# Altium footprint library WE-LAN 10G.PcbLib: 14 footprints
Each footprint in its own frame and in the unit in brackets; x right, y up, seen from the top. Pads: shape width x height; smd on the part's side, far side on the other; paste and mask are expansions set on the pad; w line width, h text height; cw(c..) or ccw(c..) is an arc to the next point about the centre after c.
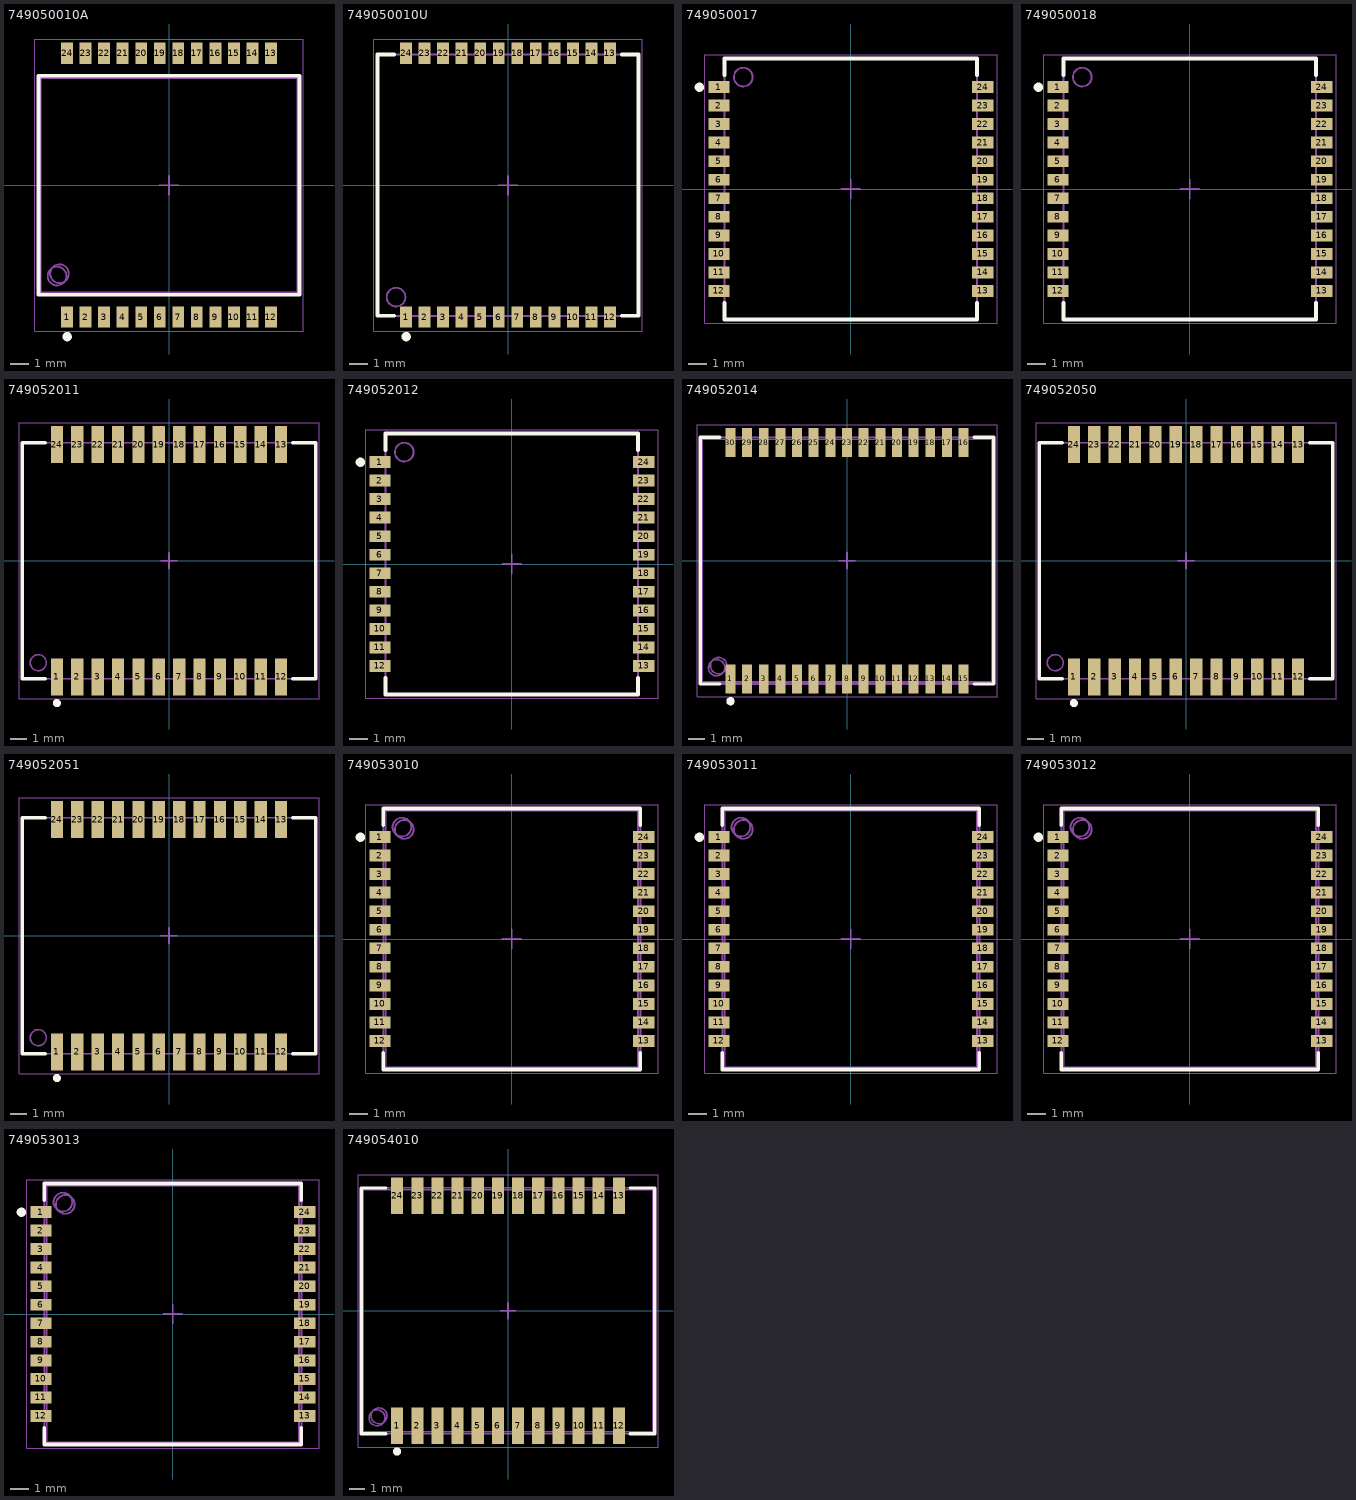
[diagram p0: the footprints below, top view; thin cyan lines are the x and y axes]

## 749050010A [mm] "LAN-Transformer 10G, body 13.97x13.97mm, 24-leads"
height 6.6
pads (24):
  rect 0.64x1.14 smd: 1(-5.445,-7.05) 2(-4.455,-7.05) 3(-3.465,-7.05) 4(-2.475,-7.05) 5(-1.485,-7.05) 6(-0.495,-7.05) 7(0.495,-7.05) 8(1.485,-7.05) 9(2.475,-7.05) 10(3.465,-7.05) 11(4.455,-7.05) 12(5.445,-7.05) 13(5.445,7.05) 14(4.455,7.05) 15(3.465,7.05) 16(2.475,7.05) 17(1.485,7.05) 18(0.495,7.05) 19(-0.495,7.05) 20(-1.485,7.05) 21(-2.475,7.05) 22(-3.465,7.05) 23(-4.455,7.05) 24(-5.445,7.05)
Top Overlay:
  circle w0.25: c-5.445,-8.1 r0.125
  lines w0.2: -6.985,-5.86 6.985,-5.86 6.985,5.86 -6.985,5.86 -6.985,-5.86
Top Assembly:
  circle w0.1: c-5.985,-4.86 r0.5
  lines w0.1: -6.985,-5.86 -6.985,5.86 6.985,5.86 6.985,-5.86 -6.985,-5.86
Top Designator:
  text ".Designator" at -3.647,-0.357 h1
Top 3D Body:
  circle w0.1: c-5.86,-4.735 r0.5
  lines w0.1: -6.86,-5.735 6.86,-5.735 6.86,5.735 -6.86,5.735 -6.86,-5.735
Top Courtyard:
  lines w0.05: -7.185,-7.82 7.185,-7.82 7.185,7.82 -7.185,7.82 -7.185,-7.82
Top Component Center:
  lines w0.1: -0.5,0 0.5,0 ; 0,-0.5 0,0.5
3D body "749050010A.stp": height 6.15, standoff 0, extent -6.985,-7.43 6.985,7.43

## 749050010U [mm] "LAN-Transformer 10G, body 13.97x13.97mm, 24-leads"
height 6.6
pads (24):
  rect 0.64x1.14 smd: 1(-5.445,-7.05) 2(-4.455,-7.05) 3(-3.465,-7.05) 4(-2.475,-7.05) 5(-1.485,-7.05) 6(-0.495,-7.05) 7(0.495,-7.05) 8(1.485,-7.05) 9(2.475,-7.05) 10(3.465,-7.05) 11(4.455,-7.05) 12(5.445,-7.05) 13(5.445,7.05) 14(4.455,7.05) 15(3.465,7.05) 16(2.475,7.05) 17(1.485,7.05) 18(0.495,7.05) 19(-0.495,7.05) 20(-1.485,7.05) 21(-2.475,7.05) 22(-3.465,7.05) 23(-4.455,7.05) 24(-5.445,7.05)
Top Overlay:
  circle w0.25: c-5.445,-8.1 r0.125
  lines w0.2: -6.1,-6.985 -6.985,-6.985 -6.985,6.985 -6.1,6.985 ; 6.1,-6.985 6.985,-6.985 6.985,6.985 6.1,6.985
Top Assembly:
  circle w0.1: c-5.985,-5.985 r0.5
  lines w0.1: -6.985,-6.985 -6.985,6.985 6.985,6.985 6.985,-6.985 -6.985,-6.985
Top Designator:
  text ".Designator" at -3.647,-0.357 h1
Top 3D Body:
  circle w0.1: c-5.985,-5.985 r0.5
  lines w0.1: -6.985,-6.985 -6.985,6.985 6.985,6.985 6.985,-6.985 -6.985,-6.985
Top Courtyard:
  lines w0.05: -7.185,-7.82 7.185,-7.82 7.185,7.82 -7.185,7.82 -7.185,-7.82
Top Component Center:
  lines w0.1: -0.5,0 0.5,0 ; 0,-0.5 0,0.5
3D body "Download_STP_749050010U_rev1.stp": height 6.6, standoff 0, extent -6.985,-7.41 6.985,7.41

## 749050017 [mm] "LAN-Transformer 10G, body 13.5x13.72mm, 24-leads"
height 6.6
pads (24):
  rect 1.14x0.64 smd: 1(-7.05,5.445) 2(-7.05,4.455) 3(-7.05,3.465) 4(-7.05,2.475) 5(-7.05,1.485) 6(-7.05,0.495) 7(-7.05,-0.495) 8(-7.05,-1.485) 9(-7.05,-2.475) 10(-7.05,-3.465) 11(-7.05,-4.455) 12(-7.05,-5.445) 13(7.05,-5.445) 14(7.05,-4.455) 15(7.05,-3.465) 16(7.05,-2.475) 17(7.05,-1.485) 18(7.05,-0.495) 19(7.05,0.495) 20(7.05,1.485) 21(7.05,2.475) 22(7.05,3.465) 23(7.05,4.455) 24(7.05,5.445)
Top Overlay:
  circle w0.25: c-8.1,5.445 r0.125
  lines w0.2: -6.75,-6.1 -6.75,-6.985 6.75,-6.985 6.75,-6.1 ; -6.75,6.1 -6.75,6.985 6.75,6.985 6.75,6.1
Top Assembly:
  circle w0.1: c-5.75,5.985 r0.5
  lines w0.1: -6.75,-6.985 6.75,-6.985 6.75,6.985 -6.75,6.985 -6.75,-6.985
Top Designator:
  text ".Designator" at -3.647,-0.357 h1
Top 3D Body:
  circle w0.1: c-5.75,5.985 r0.5
  lines w0.1: -6.75,-6.985 6.75,-6.985 6.75,6.985 -6.75,6.985 -6.75,-6.985
Top Courtyard:
  lines w0.05: -7.82,-7.185 7.82,-7.185 7.82,7.185 -7.82,7.185 -7.82,-7.185
Top Component Center:
  lines w0.1: -0.5,0 0.5,0 ; 0,-0.5 0,0.5
3D body "749050017.stp": height 6.6, standoff 0, extent -7.605,-6.985 7.505,6.985

## 749050018 [mm] "LAN-Transformer 10G, body 13.5x13.72mm, 24-leads"
height 6.6
pads (24):
  rect 1.14x0.64 smd: 1(-7.05,5.445) 2(-7.05,4.455) 3(-7.05,3.465) 4(-7.05,2.475) 5(-7.05,1.485) 6(-7.05,0.495) 7(-7.05,-0.495) 8(-7.05,-1.485) 9(-7.05,-2.475) 10(-7.05,-3.465) 11(-7.05,-4.455) 12(-7.05,-5.445) 13(7.05,-5.445) 14(7.05,-4.455) 15(7.05,-3.465) 16(7.05,-2.475) 17(7.05,-1.485) 18(7.05,-0.495) 19(7.05,0.495) 20(7.05,1.485) 21(7.05,2.475) 22(7.05,3.465) 23(7.05,4.455) 24(7.05,5.445)
Top Overlay:
  circle w0.25: c-8.1,5.445 r0.125
  lines w0.2: -6.75,-6.1 -6.75,-6.985 6.75,-6.985 6.75,-6.1 ; -6.75,6.1 -6.75,6.985 6.75,6.985 6.75,6.1
Top Assembly:
  circle w0.1: c-5.75,5.985 r0.5
  lines w0.1: -6.75,-6.985 -6.75,6.985 6.75,6.985 6.75,-6.985 -6.75,-6.985
Top Designator:
  text ".Designator" at -3.647,-0.357 h1
Top 3D Body:
  circle w0.1: c-5.75,5.985 r0.5
  lines w0.1: -6.75,-6.985 -6.75,6.985 6.75,6.985 6.75,-6.985 -6.75,-6.985
Top Courtyard:
  lines w0.05: -7.82,-7.185 -7.82,7.185 7.82,7.185 7.82,-7.185 -7.82,-7.185
Top Component Center:
  lines w0.1: -0.5,0 0.5,0 ; 0,-0.5 0,0.5
3D body "749050018.stp": height 6.6, standoff 0, extent -7.605,-6.985 7.505,6.985

## 749052011 [mm] "LAN-Transformer 10G, body 18.04x14.45mm, 24-leads"
height 7.45
pads (24):
  rect 0.76x2.29 smd: 1(-6.985,-7.24) 2(-5.715,-7.24) 3(-4.445,-7.24) 4(-3.175,-7.24) 5(-1.905,-7.24) 6(-0.635,-7.24) 7(0.635,-7.24) 8(1.905,-7.24) 9(3.175,-7.24) 10(4.445,-7.24) 11(5.715,-7.24) 12(6.985,-7.24) 13(6.985,7.24) 14(5.715,7.24) 15(4.445,7.24) 16(3.175,7.24) 17(1.905,7.24) 18(0.635,7.24) 19(-0.635,7.24) 20(-1.905,7.24) 21(-3.175,7.24) 22(-4.445,7.24) 23(-5.715,7.24) 24(-6.985,7.24)
Top Overlay:
  circle w0.25: c-6.985,-8.865 r0.125
  lines w0.2: -7.7,-7.35 -9.145,-7.35 -9.145,7.35 -7.7,7.35 ; 7.7,-7.35 9.145,-7.35 9.145,7.35 7.7,7.35
Top Assembly:
  circle w0.1: c-8.145,-6.35 r0.5
  lines w0.1: -9.145,-7.35 9.145,-7.35 9.145,7.35 -9.145,7.35 -9.145,-7.35
Top Designator:
  text ".Designator" at -3.647,-0.357 h1
Top 3D Body:
  circle w0.1: c-8.145,-6.35 r0.5
  lines w0.1: -9.145,-7.35 9.145,-7.35 9.145,7.35 -9.145,7.35 -9.145,-7.35
Top Courtyard:
  lines w0.05: -9.345,-8.585 -9.345,8.585 9.345,8.585 9.345,-8.585 -9.345,-8.585
Top Component Center:
  lines w0.1: -0.5,0 0.5,0 ; 0,-0.5 0,0.5
3D body "749052011.stp": height 7.2, standoff 0, extent -9.145,-8 9.145,8

## 749052012 [mm] "LAN-Transformer 10G, body 13.5x13.72mm, 24-leads"
height 6.6
pads (24):
  rect 1.14x0.64 smd: 1(-7.05,5.445) 2(-7.05,4.455) 3(-7.05,3.465) 4(-7.05,2.475) 5(-7.05,1.485) 6(-7.05,0.495) 7(-7.05,-0.495) 8(-7.05,-1.485) 9(-7.05,-2.475) 10(-7.05,-3.465) 11(-7.05,-4.455) 12(-7.05,-5.445) 13(7.05,-5.445) 14(7.05,-4.455) 15(7.05,-3.465) 16(7.05,-2.475) 17(7.05,-1.485) 18(7.05,-0.495) 19(7.05,0.495) 20(7.05,1.485) 21(7.05,2.475) 22(7.05,3.465) 23(7.05,4.455) 24(7.05,5.445)
Top Overlay:
  circle w0.25: c-8.1,5.445 r0.125
  lines w0.2: -6.75,-6.1 -6.75,-6.985 6.75,-6.985 6.75,-6.1 ; -6.75,6.1 -6.75,6.985 6.75,6.985 6.75,6.1
Top Assembly:
  circle w0.1: c-5.75,5.985 r0.5
  lines w0.1: -6.75,-6.985 -6.75,6.985 6.75,6.985 6.75,-6.985 -6.75,-6.985
Top Designator:
  text ".Designator" at -3.647,-0.357 h1
Top 3D Body:
  circle w0.1: c-5.75,5.985 r0.5
  lines w0.1: -6.75,-6.985 -6.75,6.985 6.75,6.985 6.75,-6.985 -6.75,-6.985
Top Courtyard:
  lines w0.05: -7.82,-7.185 7.82,-7.185 7.82,7.185 -7.82,7.185 -7.82,-7.185
Top Component Center:
  lines w0.1: -0.5,0 0.5,0 ; 0,-0.5 0,0.5
3D body "749052012.stp": height 6.6, standoff 0, extent -7.555,-6.985 7.555,6.985

## 749052014 [mm] "LAN-Transformer 10G, body 17.73x14.86mm, 30-leads"
height 7.49
pads (30):
  rect 0.61x1.78 smd: 1(-7.14,-7.24) 2(-6.12,-7.24) 3(-5.1,-7.24) 4(-4.08,-7.24) 5(-3.06,-7.24) 6(-2.04,-7.24) 7(-1.02,-7.24) 8(0,-7.24) 9(1.02,-7.24) 10(2.04,-7.24) 11(3.06,-7.24) 12(4.08,-7.24) 13(5.1,-7.24) 14(6.12,-7.24) 15(7.14,-7.24) 16(7.14,7.24) 17(6.12,7.24) 18(5.1,7.24) 19(4.08,7.24) 20(3.06,7.24) 21(2.04,7.24) 22(1.02,7.24) 23(0,7.24) 24(-1.02,7.24) 25(-2.04,7.24) 26(-3.06,7.24) 27(-4.08,7.24) 28(-5.1,7.24) 29(-6.12,7.24) 30(-7.14,7.24)
Top Overlay:
  circle w0.25: c-7.14,-8.61 r0.125
  lines w0.2: -7.8,-7.555 -8.99,-7.555 -8.99,7.555 -7.8,7.555 ; 7.8,-7.555 8.99,-7.555 8.99,7.555 7.8,7.555
Top Assembly:
  circle w0.1: c-7.99,-6.555 r0.5
  lines w0.1: -8.99,-7.555 -8.99,7.555 8.99,7.555 8.99,-7.555 -8.99,-7.555
Top Designator:
  text ".Designator" at -3.647,-0.357 h1
Top 3D Body:
  circle w0.1: c-7.865,-6.43 r0.5
  lines w0.1: -8.865,-7.43 -8.865,7.43 8.865,7.43 8.865,-7.43 -8.865,-7.43
Top Courtyard:
  lines w0.05: -9.19,-8.33 9.19,-8.33 9.19,8.33 -9.19,8.33 -9.19,-8.33
Top Component Center:
  lines w0.1: -0.5,0 0.5,0 ; 0,-0.5 0,0.5
3D body "749052014.stp": height 7.25, standoff 0.01, extent -8.865,-7.62 8.865,7.62

## 749052050 [mm] "LAN-Transformer 10G, body 18.04x14.45mm, 24-leads"
height 9.05
pads (24):
  rect 0.76x2.29 smd: 1(-6.985,-7.24) 2(-5.715,-7.24) 3(-4.445,-7.24) 4(-3.175,-7.24) 5(-1.905,-7.24) 6(-0.635,-7.24) 7(0.635,-7.24) 8(1.905,-7.24) 9(3.175,-7.24) 10(4.445,-7.24) 11(5.715,-7.24) 12(6.985,-7.24) 13(6.985,7.24) 14(5.715,7.24) 15(4.445,7.24) 16(3.175,7.24) 17(1.905,7.24) 18(0.635,7.24) 19(-0.635,7.24) 20(-1.905,7.24) 21(-3.175,7.24) 22(-4.445,7.24) 23(-5.715,7.24) 24(-6.985,7.24)
Top Overlay:
  circle w0.25: c-6.985,-8.865 r0.125
  lines w0.2: -7.7,-7.35 -9.145,-7.35 -9.145,7.35 -7.7,7.35 ; 7.7,-7.35 9.145,-7.35 9.145,7.35 7.7,7.35
Top Assembly:
  circle w0.1: c-8.145,-6.35 r0.5
  lines w0.1: -9.145,-7.35 -9.145,7.35 9.145,7.35 9.145,-7.35 -9.145,-7.35
Top Designator:
  text ".Designator" at -3.647,-0.357 h1
Top 3D Body:
  circle w0.1: c-8.145,-6.35 r0.5
  lines w0.1: -9.145,-7.35 -9.145,7.35 9.145,7.35 9.145,-7.35 -9.145,-7.35
Top Courtyard:
  lines w0.05: -9.345,-8.585 9.345,-8.585 9.345,8.585 -9.345,8.585 -9.345,-8.585
Top Component Center:
  lines w0.1: -0.5,0 0.5,0 ; 0,-0.5 0,0.5
3D body "749052050.stp": height 8.8, standoff 0, extent -9.145,-8.08 9.145,8.08

## 749052051 [mm] "LAN-Transformer 10G, body 18.04x14.45mm, 24-leads"
height 9.05
pads (24):
  rect 0.76x2.29 smd: 1(-6.985,-7.24) 2(-5.715,-7.24) 3(-4.445,-7.24) 4(-3.175,-7.24) 5(-1.905,-7.24) 6(-0.635,-7.24) 7(0.635,-7.24) 8(1.905,-7.24) 9(3.175,-7.24) 10(4.445,-7.24) 11(5.715,-7.24) 12(6.985,-7.24) 13(6.985,7.24) 14(5.715,7.24) 15(4.445,7.24) 16(3.175,7.24) 17(1.905,7.24) 18(0.635,7.24) 19(-0.635,7.24) 20(-1.905,7.24) 21(-3.175,7.24) 22(-4.445,7.24) 23(-5.715,7.24) 24(-6.985,7.24)
Top Overlay:
  circle w0.25: c-6.985,-8.865 r0.125
  lines w0.2: -7.7,-7.35 -9.145,-7.35 -9.145,7.35 -7.7,7.35 ; 7.7,-7.35 9.145,-7.35 9.145,7.35 7.7,7.35
Top Assembly:
  circle w0.1: c-8.145,-6.35 r0.5
  lines w0.1: -9.145,-7.35 -9.145,7.35 9.145,7.35 9.145,-7.35 -9.145,-7.35
Top Designator:
  text ".Designator" at -3.647,-0.357 h1
Top 3D Body:
  circle w0.1: c-8.145,-6.35 r0.5
  lines w0.1: -9.145,-7.35 -9.145,7.35 9.145,7.35 9.145,-7.35 -9.145,-7.35
Top Courtyard:
  lines w0.05: -9.345,-8.585 9.345,-8.585 9.345,8.585 -9.345,8.585 -9.345,-8.585
Top Component Center:
  lines w0.1: -0.5,0 0.5,0 ; 0,-0.5 0,0.5
3D body "749052051.stp": height 8.8, standoff 0, extent -9.145,-8.08 9.145,8.08

## 749053010 [mm] "LAN-Transformer 10G, body 13.5x13.72mm, 24-leads"
height 6.6
pads (24):
  rect 1.14x0.64 smd: 1(-7.05,5.445) 2(-7.05,4.455) 3(-7.05,3.465) 4(-7.05,2.475) 5(-7.05,1.485) 6(-7.05,0.495) 7(-7.05,-0.495) 8(-7.05,-1.485) 9(-7.05,-2.475) 10(-7.05,-3.465) 11(-7.05,-4.455) 12(-7.05,-5.445) 13(7.05,-5.445) 14(7.05,-4.455) 15(7.05,-3.465) 16(7.05,-2.475) 17(7.05,-1.485) 18(7.05,-0.495) 19(7.05,0.495) 20(7.05,1.485) 21(7.05,2.475) 22(7.05,3.465) 23(7.05,4.455) 24(7.05,5.445)
Top Overlay:
  circle w0.25: c-8.1,5.445 r0.125
  lines w0.2: -6.875,-6.1 -6.875,-6.985 6.875,-6.985 6.875,-6.1 ; -6.875,6.1 -6.875,6.985 6.875,6.985 6.875,6.1
Top Assembly:
  circle w0.1: c-5.875,5.985 r0.5
  lines w0.1: -6.875,-6.985 6.875,-6.985 6.875,6.985 -6.875,6.985 -6.875,-6.985
Top Designator:
  text ".Designator" at -3.647,-0.357 h1
Top 3D Body:
  circle w0.1: c-5.75,5.86 r0.5
  lines w0.1: -6.75,-6.86 -6.75,6.86 6.75,6.86 6.75,-6.86 -6.75,-6.86
Top Courtyard:
  lines w0.05: -7.82,-7.185 7.82,-7.185 7.82,7.185 -7.82,7.185 -7.82,-7.185
Top Component Center:
  lines w0.1: -0.5,0 0.5,0 ; 0,-0.5 0,0.5
3D body "749053010.stp": height 6.2, standoff 0, extent -7.45,-6.85 7.45,6.85

## 749053011 [mm] "LAN-Transformer 10G, body 13.5x13.72mm, 24-leads"
height 6.6
pads (24):
  rect 1.14x0.64 smd: 1(-7.05,5.445) 2(-7.05,4.455) 3(-7.05,3.465) 4(-7.05,2.475) 5(-7.05,1.485) 6(-7.05,0.495) 7(-7.05,-0.495) 8(-7.05,-1.485) 9(-7.05,-2.475) 10(-7.05,-3.465) 11(-7.05,-4.455) 12(-7.05,-5.445) 13(7.05,-5.445) 14(7.05,-4.455) 15(7.05,-3.465) 16(7.05,-2.475) 17(7.05,-1.485) 18(7.05,-0.495) 19(7.05,0.495) 20(7.05,1.485) 21(7.05,2.475) 22(7.05,3.465) 23(7.05,4.455) 24(7.05,5.445)
Top Overlay:
  circle w0.25: c-8.1,5.445 r0.125
  lines w0.2: -6.875,-6.1 -6.875,-6.985 6.875,-6.985 6.875,-6.1 ; -6.875,6.1 -6.875,6.985 6.875,6.985 6.875,6.1
Top Assembly:
  circle w0.1: c-5.875,5.985 r0.5
  lines w0.1: -6.875,-6.985 -6.875,6.985 6.875,6.985 6.875,-6.985 -6.875,-6.985
Top Designator:
  text ".Designator" at -3.647,-0.357 h1
Top 3D Body:
  circle w0.1: c-5.75,5.86 r0.5
  lines w0.1: -6.75,-6.86 6.75,-6.86 6.75,6.86 -6.75,6.86 -6.75,-6.86
Top Courtyard:
  lines w0.05: -7.82,-7.185 -7.82,7.185 7.82,7.185 7.82,-7.185 -7.82,-7.185
Top Component Center:
  lines w0.1: -0.5,0 0.5,0 ; 0,-0.5 0,0.5
3D body "749053011.stp": height 6.6, standoff 0, extent -7.555,-6.85 7.555,6.85

## 749053012 [mm] "LAN-Transformer 10G, body 13.5x13.72mm, 24-leads"
height 6.6
pads (24):
  rect 1.14x0.64 smd: 1(-7.05,5.445) 2(-7.05,4.455) 3(-7.05,3.465) 4(-7.05,2.475) 5(-7.05,1.485) 6(-7.05,0.495) 7(-7.05,-0.495) 8(-7.05,-1.485) 9(-7.05,-2.475) 10(-7.05,-3.465) 11(-7.05,-4.455) 12(-7.05,-5.445) 13(7.05,-5.445) 14(7.05,-4.455) 15(7.05,-3.465) 16(7.05,-2.475) 17(7.05,-1.485) 18(7.05,-0.495) 19(7.05,0.495) 20(7.05,1.485) 21(7.05,2.475) 22(7.05,3.465) 23(7.05,4.455) 24(7.05,5.445)
Top Overlay:
  circle w0.25: c-8.1,5.445 r0.125
  lines w0.2: -6.875,-6.1 -6.875,-6.985 6.875,-6.985 6.875,-6.1 ; -6.875,6.1 -6.875,6.985 6.875,6.985 6.875,6.1
Top Assembly:
  circle w0.1: c-5.875,5.985 r0.5
  lines w0.1: -6.875,-6.985 6.875,-6.985 6.875,6.985 -6.875,6.985 -6.875,-6.985
Top Designator:
  text ".Designator" at -3.647,-0.357 h1
Top 3D Body:
  circle w0.1: c-5.75,5.86 r0.5
  lines w0.1: -6.75,-6.86 -6.75,6.86 6.75,6.86 6.75,-6.86 -6.75,-6.86
Top Courtyard:
  lines w0.05: -7.82,-7.185 7.82,-7.185 7.82,7.185 -7.82,7.185 -7.82,-7.185
Top Component Center:
  lines w0.1: -0.5,0 0.5,0 ; 0,-0.5 0,0.5
3D body "749053012.stp": height 6.6, standoff 0, extent -7.555,-6.985 7.555,6.985

## 749053013 [mm] "LAN-Transformer 10G, body 13.5x13.72mm, 24-leads"
height 6.6
pads (24):
  rect 1.14x0.64 smd: 1(-7.05,5.445) 2(-7.05,4.455) 3(-7.05,3.465) 4(-7.05,2.475) 5(-7.05,1.485) 6(-7.05,0.495) 7(-7.05,-0.495) 8(-7.05,-1.485) 9(-7.05,-2.475) 10(-7.05,-3.465) 11(-7.05,-4.455) 12(-7.05,-5.445) 13(7.05,-5.445) 14(7.05,-4.455) 15(7.05,-3.465) 16(7.05,-2.475) 17(7.05,-1.485) 18(7.05,-0.495) 19(7.05,0.495) 20(7.05,1.485) 21(7.05,2.475) 22(7.05,3.465) 23(7.05,4.455) 24(7.05,5.445)
Top Overlay:
  circle w0.25: c-8.1,5.445 r0.125
  lines w0.2: -6.875,-6.1 -6.875,-6.985 6.875,-6.985 6.875,-6.1 ; -6.875,6.1 -6.875,6.985 6.875,6.985 6.875,6.1
Top Assembly:
  circle w0.1: c-5.875,5.985 r0.5
  lines w0.1: -6.875,-6.985 -6.875,6.985 6.875,6.985 6.875,-6.985 -6.875,-6.985
Top Designator:
  text ".Designator" at -3.647,-0.357 h1
Top 3D Body:
  circle w0.1: c-5.75,5.86 r0.5
  lines w0.1: -6.75,-6.86 6.75,-6.86 6.75,6.86 -6.75,6.86 -6.75,-6.86
Top Courtyard:
  lines w0.05: -7.82,-7.185 7.82,-7.185 7.82,7.185 -7.82,7.185 -7.82,-7.185
Top Component Center:
  lines w0.1: -0.5,0 0.5,0 ; 0,-0.5 0,0.5
3D body "Download_STP_749053013_rev1.stp": height 6.2, standoff 0, extent -7.45,-6.85 7.45,6.85

## 749054010 [mm] "LAN-Transformer 10G, body 18.25x15.24mm, 24-leads"
height 10.02
pads (24):
  rect 0.76x2.29 smd: 1(-6.985,-7.24) 2(-5.715,-7.24) 3(-4.445,-7.24) 4(-3.175,-7.24) 5(-1.905,-7.24) 6(-0.635,-7.24) 7(0.635,-7.24) 8(1.905,-7.24) 9(3.175,-7.24) 10(4.445,-7.24) 11(5.715,-7.24) 12(6.985,-7.24) 13(6.985,7.24) 14(5.715,7.24) 15(4.445,7.24) 16(3.175,7.24) 17(1.905,7.24) 18(0.635,7.24) 19(-0.635,7.24) 20(-1.905,7.24) 21(-3.175,7.24) 22(-4.445,7.24) 23(-5.715,7.24) 24(-6.985,7.24)
Top Overlay:
  circle w0.25: c-6.985,-8.865 r0.125
  lines w0.2: -7.7,-7.745 -9.25,-7.745 -9.25,7.745 -7.7,7.745 ; 7.7,-7.745 9.25,-7.745 9.25,7.745 7.7,7.745
Top Assembly:
  circle w0.1: c-8.25,-6.745 r0.5
  lines w0.1: -9.25,-7.745 -9.25,7.745 9.25,7.745 9.25,-7.745 -9.25,-7.745
Top Designator:
  text ".Designator" at -3.647,-0.357 h1
Top 3D Body:
  circle w0.1: c-8.125,-6.62 r0.5
  lines w0.1: -9.125,-7.62 -9.125,7.62 9.125,7.62 9.125,-7.62 -9.125,-7.62
Top Courtyard:
  lines w0.05: -9.45,-8.585 -9.45,8.585 9.45,8.585 9.45,-8.585 -9.45,-8.585
Top Component Center:
  lines w0.1: -0.5,0 0.5,0 ; 0,-0.5 0,0.5
3D body "Download_STP_WE-LAN_749054010 (rev1).stp": height 10.05, standoff 0.03, extent -9.16,-7.97 9.16,7.97